# EAGLE library part TPS623XX (library diode-20CJQ030)
Ti's TPS623** 500-mA, 3-MHz SYNCHRONOUS STEP-DOWN CONVERTER Description: The TPS623xx device is a high-frequency synchronous step-down dc-dc converter optimized for battery-powered portable applications. Intended for low-power applications, the TPS623xx supports up to 500-mA load current and allows the use of tiny, low cost chip inductor and capacitors. The device is ideal for mobile phones and similar portable applications powered by a single-cell Li-Ion battery or by 3-cell NiMH/NiCd batteries. With an output voltage range from 5.4 V down to 0.6 V, the device supports low-voltage DSPs and processors in smart-phones, PDAs as well as notebooks, and handheld computers. The TPS62300 operates at 3-MHz fixed switching frequency and enters the power-save mode operation at light load currents to maintain high efficiency over the entire load current range. For low noise applications, the device can be forced into fixed frequency PWM mode by pulling the MODE/SYNC pin high. The device can also be synchronized to an external clock signal in the range of 3 MHz. In the shutdown mode, the current consumption is reduced to less than 1 uA. The TPS623xx is available in a 10-pin leadless package (3 ´ 3 mm QFN) and an 8-pin chip-scale package (CSP). Features: Up to 93% Efficiency at 3-MHz Operation Up to 500-mA Output Current at VI = 2.7 V 3-MHz Fixed Frequency Operation Best in Class Load and Line Transient Complete 1-mm Component Profile Solution -0.5% / +1.3% PWM DC Voltage Accuracy Over Temperature 35-ns Minimum On-Time Power-Save Mode Operation at Light Load Currents Fixed and Adjustable Output Voltage Only 86-uA Quiescent Current 100% Duty Cycle for Lowest Dropout Synchronizable On the Fly to External Clock Signal Integrated Active Power-Down Sequencing (TPS6232x only) Available in a 10-Pin QFN (3 x 3 mm) and 8-Pin NanoFree and NanoStar (CSP) Packaging APPLICATIONS Cell Phones, Smart-Phones WLAN and Bluetooth Applications Micro DC-DC Converter Modules PDAs, Pocket PCs USB-Based DSL Modems Digital Cameras Please send any comments to: messi@users.sourceforge.net
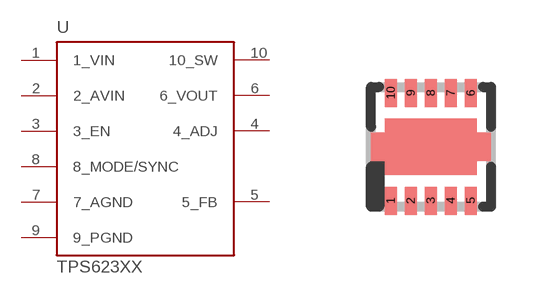
[diagram p31: symbol with the pads of QFN-10; footprint QFN-10]

Designator prefix U

## TPS623XX  [QFN-10]
1  1_VIN  pwr
2  2_AVIN  pwr
3  3_EN  pas
4  4_ADJ  pas
5  5_FB  pas
6  6_VOUT  pwr
7  7_AGND  pwr
8  8_MODE/SYNC  pas
9  9_PGND  pwr
10  10_SW  pwr

## Footprint QFN-10 (pad centres in mm)
TI TPS623xx 500mA, 3-MHz synchronous step-down converter in chip scale package (central pad is ground)
smd 0.3 x 0.7: 1 -1,-1.35; 2 -0.5,-1.35; 3 0,-1.35; 4 0.5,-1.35; 5 1,-1.35; 6 1,1.35; 7 0.5,1.35; 8 0,1.35; 9 -0.5,1.35; 10 -1,1.35